# Altium schematic symbol library LM3410XSD_NOPB.SchLib: 1 symbol
Pins are listed as number, name and electrical type; pins without a type are passive.

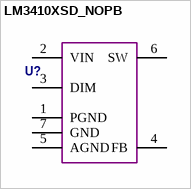
[diagram p0: symbol LM3410XSD_NOPB]

## LM3410XSD_NOPB
designator U?  (value not drawn)
pins: 1 PGND, 2 VIN, 3 DIM, 4 FB, 5 AGND, 6 SW, 7 GND